# EAGLE library part NRF24L01+ (library Radios)
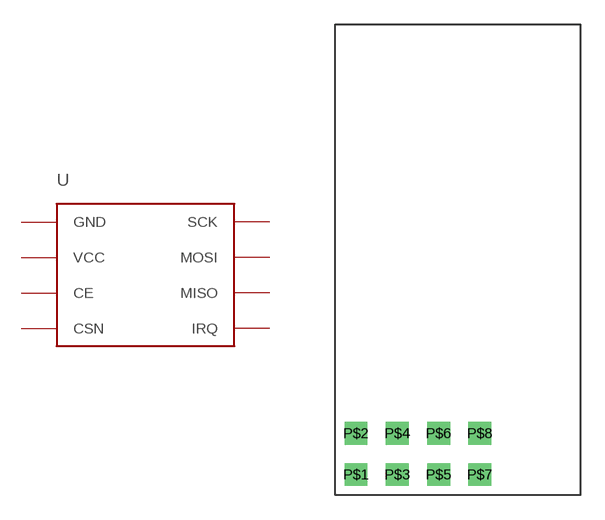
[diagram p0: symbol with the pads of NRF24L01-PCB-AERIAL; footprint NRF24L01-PCB-AERIAL]

Designator prefix U

## NRF24L01+-PCB-AERIAL  [NRF24L01-PCB-AERIAL]
P$1  GND  pwr
P$2  VCC  pwr
P$3  CE
P$4  CSN
P$5  SCK
P$6  MOSI
P$7  MISO
P$8  IRQ

## Footprint NRF24L01-PCB-AERIAL (pad centres in mm)
Module with PCB aerial. Some dimensions should be measured - silkscreen is approximate, hole diameter unknown.
drill 0.9 square: P$1 -3.81,-1.27; P$2 -3.81,1.27; P$3 -1.27,-1.27; P$4 -1.27,1.27; P$5 1.27,-1.27; P$6 1.27,1.27; P$7 3.81,-1.27; P$8 3.81,1.27